# Altium footprint library Bourns_SRR1806.PcbLib: 1 footprints
Each footprint in its own frame and in the unit in brackets; x right, y up, seen from the top. Pads: shape width x height; smd on the part's side, far side on the other; paste and mask are expansions set on the pad; w line width, h text height; cw(c..) or ccw(c..) is an arc to the next point about the centre after c.
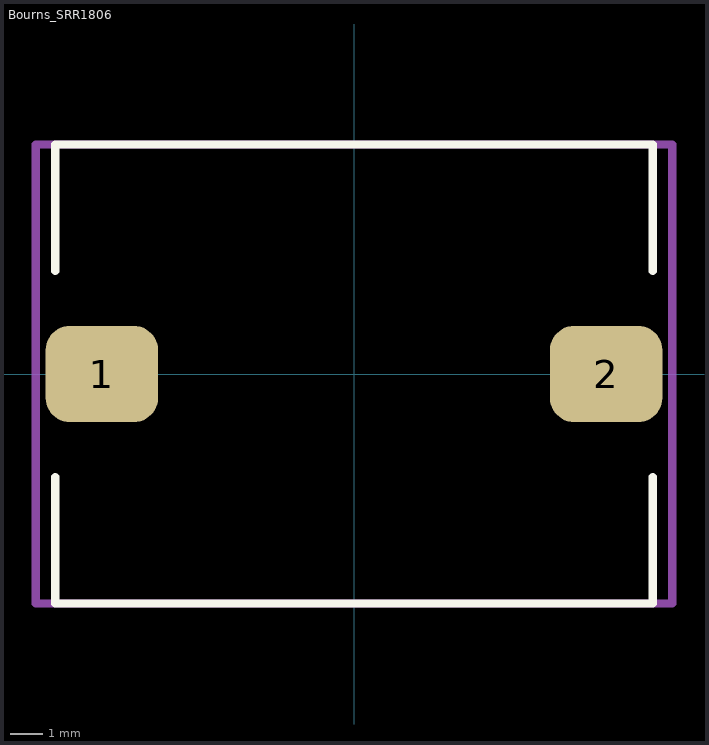
[diagram p0: the footprint, top view; thin cyan lines are the x and y axes]

## Bourns_SRR1806 [mm]
height 7.1
pads (2):
  rrect50% 3.5x3 smd: 1(-7.85,0) 2(7.85,0)
Top Overlay:
  lines w0.254: -9.3,-3.204 -9.3,-7.15 9.3,-7.15 9.3,-3.204 ; -9.3,3.204 -9.3,7.15 9.3,7.15 9.3,3.204
Mechanical 15:
  lines w0.254: -9.906,-7.15 -9.906,7.15 9.906,7.15 9.906,-7.15 -9.906,-7.15
3D body: height 6.8, standoff 0, extent -9.15,-7 9.15,7